# Altium footprint library PcbLib1.PcbLib: 4 footprints
Each footprint in its own frame and in the unit in brackets; x right, y up, seen from the top. Pads: shape width x height; smd on the part's side, far side on the other; paste and mask are expansions set on the pad; w line width, h text height; cw(c..) or ccw(c..) is an arc to the next point about the centre after c.
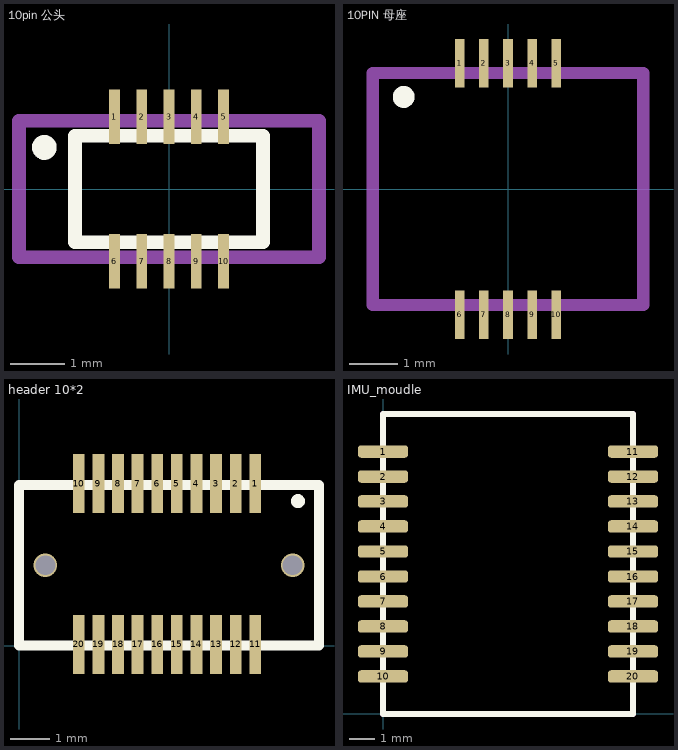
[diagram p0: the footprints below, top view; thin cyan lines are the x and y axes]

## 10pin 公头 [mm] "0.5mm间距，180度接插件"
pads (10):
  rect 0.2x1 smd mask+0.1: 1(-1,1.325) 6(-1,-1.325)
  rect 0.2x1 smd: 2(-0.5,1.325) 3(0,1.325) 4(0.5,1.325) 5(1,1.325) 7(-0.5,-1.325) 8(0,-1.325) 9(0.5,-1.325) 10(1,-1.325)
Top Overlay:
  circle w0.254: c-2.286,0.762 r0.1
  lines w0.254: -1.725,-0.975 -1.725,0.975 1.725,0.975 1.725,-0.975 -1.725,-0.975
Mechanical 1:
  lines w0.254: -2.75,-1.25 -2.75,1.25 2.75,1.25 2.75,-1.25 -2.75,-1.25

## 10PIN 母座 [mm] "0.5间距，合高1.5，2.5，3.5"
pads (10):
  rect 0.2x1 smd: 1(-1,2.605) 2(-0.5,2.605) 3(0,2.605) 4(0.5,2.605) 5(1,2.605) 6(-1,-2.605) 7(-0.5,-2.605) 8(0,-2.605) 9(0.5,-2.605) 10(1,-2.605)
Top Overlay:
  circle w0.254: c-2.159,1.905 r0.1
Mechanical 1:
  lines w0.254: -2.8,-2.4 -2.8,2.4 2.8,2.4 2.8,-2.4 -2.8,-2.4

## header 10*2 [mm] "10*2 0.5mm"
pads (20):
  rect 0.3x1.5 smd: 1(6.025,4.13) 2(5.525,4.13) 3(5.025,4.13) 4(4.525,4.13) 5(4.025,4.13) 6(3.525,4.13) 7(3.025,4.13) 8(2.525,4.13) 9(2.025,4.13) 10(1.525,4.13) 11(6.025,0.03) 12(5.525,0.03) 13(5.025,0.03) 14(4.525,0.03) 15(4.025,0.03) 16(3.525,0.03) 17(3.025,0.03) 18(2.525,0.03) 19(2.025,0.03) 20(1.525,0.03)
via 6.975,2.05 diameter 0.6 hole 0.5
via 0.675,2.05 diameter 0.6 hole 0.5
Top Overlay:
  circle w0.254: c7.112,3.683 r0.051
  lines w0.254: 0,0 0,4.1 7.65,4.1 7.65,0 0,0
Mechanical 1:
  pour cut-out: 1.524,4.445
  pour cut-out: 1.524,0.254

## IMU_moudle [mm]
pads (20):
  rrect50% 2x0.5 smd: 1(0,10.5) 2(0,9.5) 3(0,8.5) 4(0,7.5) 5(0,6.5) 6(0,5.5) 7(0,4.5) 8(0,3.5) 9(0,2.5) 10(0,1.5) 11(10,10.5) 12(10,9.5) 13(10,8.5) 14(10,7.5) 15(10,6.5) 16(10,5.5) 17(10,4.5) 18(10,3.5) 19(10,2.5) 20(10,1.5)
Top Overlay:
  lines w0.254: 0,0 10,0 10,12 0,12 0,0
Mechanical 1:
  lines w0.254: 0,0 0,12 10,12 10,0 0,0